# EAGLE library part СНП392-8 (library connectors)
РЮМК.430420.037 ТУ Соединитель электрический прямоугольный типа СНП392 предназначен для работы в электрических цепях постоянного, переменного и импульсного токов в радиоэлектронной аппаратуре специального и общепромышленного назначения. Технические условия ОТК: РЮМК.430420.050 ТУ Технические условия ВП: РЮМК.430420.037 ТУ Производитель: АО «Карачевский завод "Электродеталь" 242500 Брянская область, г. Карачев, ул. Горького, 1
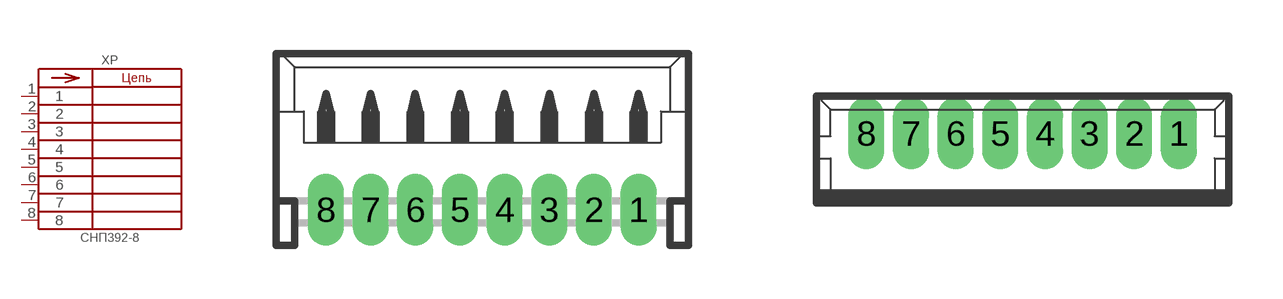
[diagram p6: symbol with the pads of СНП392-8(угловой); footprints СНП392-8(угловой), СНП392-8(прямой)]

Designator prefix XP

## СНП392-8В321-1  [СНП392-8(угловой)]
1  1  pas
2  2  pas
3  3  pas
4  4  pas
5  5  pas
6  6  pas
7  7  pas
8  8  pas

## СНП392-8ВП21-1  [СНП392-8(прямой)]
Pads as for СНП392-8(угловой)

## СНП392-8ВП51-1  [СНП392-8(поверхностный)]
Pads as for СНП392-8(угловой)

## Footprint СНП392-8(угловой) (pad centres in mm)
drill 0.5 pad 0.698 long: 1 4.375,-1.25; 2 3.125,-1.25; 3 1.875,-1.25; 4 0.625,-1.25; 5 -0.625,-1.25; 6 -1.875,-1.25; 7 -3.125,-1.25; 8 -4.375,-1.25

## Footprint СНП392-8(прямой) (pad centres in mm)
drill 0.5 pad 0.698 long: 1 4.375,0.45; 2 3.125,0.45; 3 1.875,0.45; 4 0.625,0.45; 5 -0.625,0.45; 6 -1.875,0.45; 7 -3.125,0.45; 8 -4.375,0.45

## Footprint СНП392-8(поверхностный) (pad centres in mm)
smd 0.8 x 2: 1 4.375,-2.5; 2 3.125,-2.5; 3 1.875,-2.5; 4 0.625,-2.5; 5 -0.625,-2.5; 6 -1.875,-2.5; 7 -3.125,-2.5; 8 -4.375,-2.5
smd 2.1 x 3: S1 6.875,0.625; S2 -6.875,0.625